# Altium schematic symbol library LTC3200-5.SchLib: 1 symbol
Pins are listed as number, name and electrical type; pins without a type are passive.

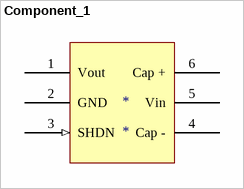
[diagram p0: symbol Component_1]

## Component_1
designator *
footprint SOP6
pins: 1 Vout (power), 2 GND (power), 3 SHDN (in), 4 Cap - (power), 5 Vin (power), 6 Cap +